# Altium integrated library TPS2115ADRBR.IntLib: 1 symbol
Pins are listed as number, name and electrical type; pins without a type are passive.

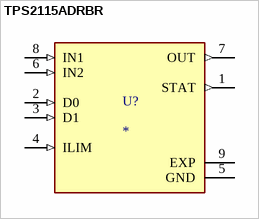
[diagram p0: symbol TPS2115ADRBR]

## TPS2115ADRBR
designator U?
<a href="https://snapeda.com/parts/TPS2115ADRBR/Texas%20Instruments/view-part/?ref=eda">Check prices</a>; Price: None; Value: *; MP: TPS2115ADRBR; Package: None; Availability: Unavailable
footprint SON65P300X300X100-9N
pins: 1 STAT (out), 2 D0 (in), 3 D1 (in), 4 ILIM (in), 5 GND (power), 6 IN2 (in), 7 OUT (out), 8 IN1 (in), 9 EXP (power)